# Altium footprint library Capacitor Non-Polar Disc.PcbLib: 220 footprints (part 8 of 14)
Each footprint in its own frame and in the unit in brackets; x right, y up, seen from the top. Pads: shape width x height; smd on the part's side, far side on the other; paste and mask are expansions set on the pad; w line width, h text height; cw(c..) or ccw(c..) is an arc to the next point about the centre after c.
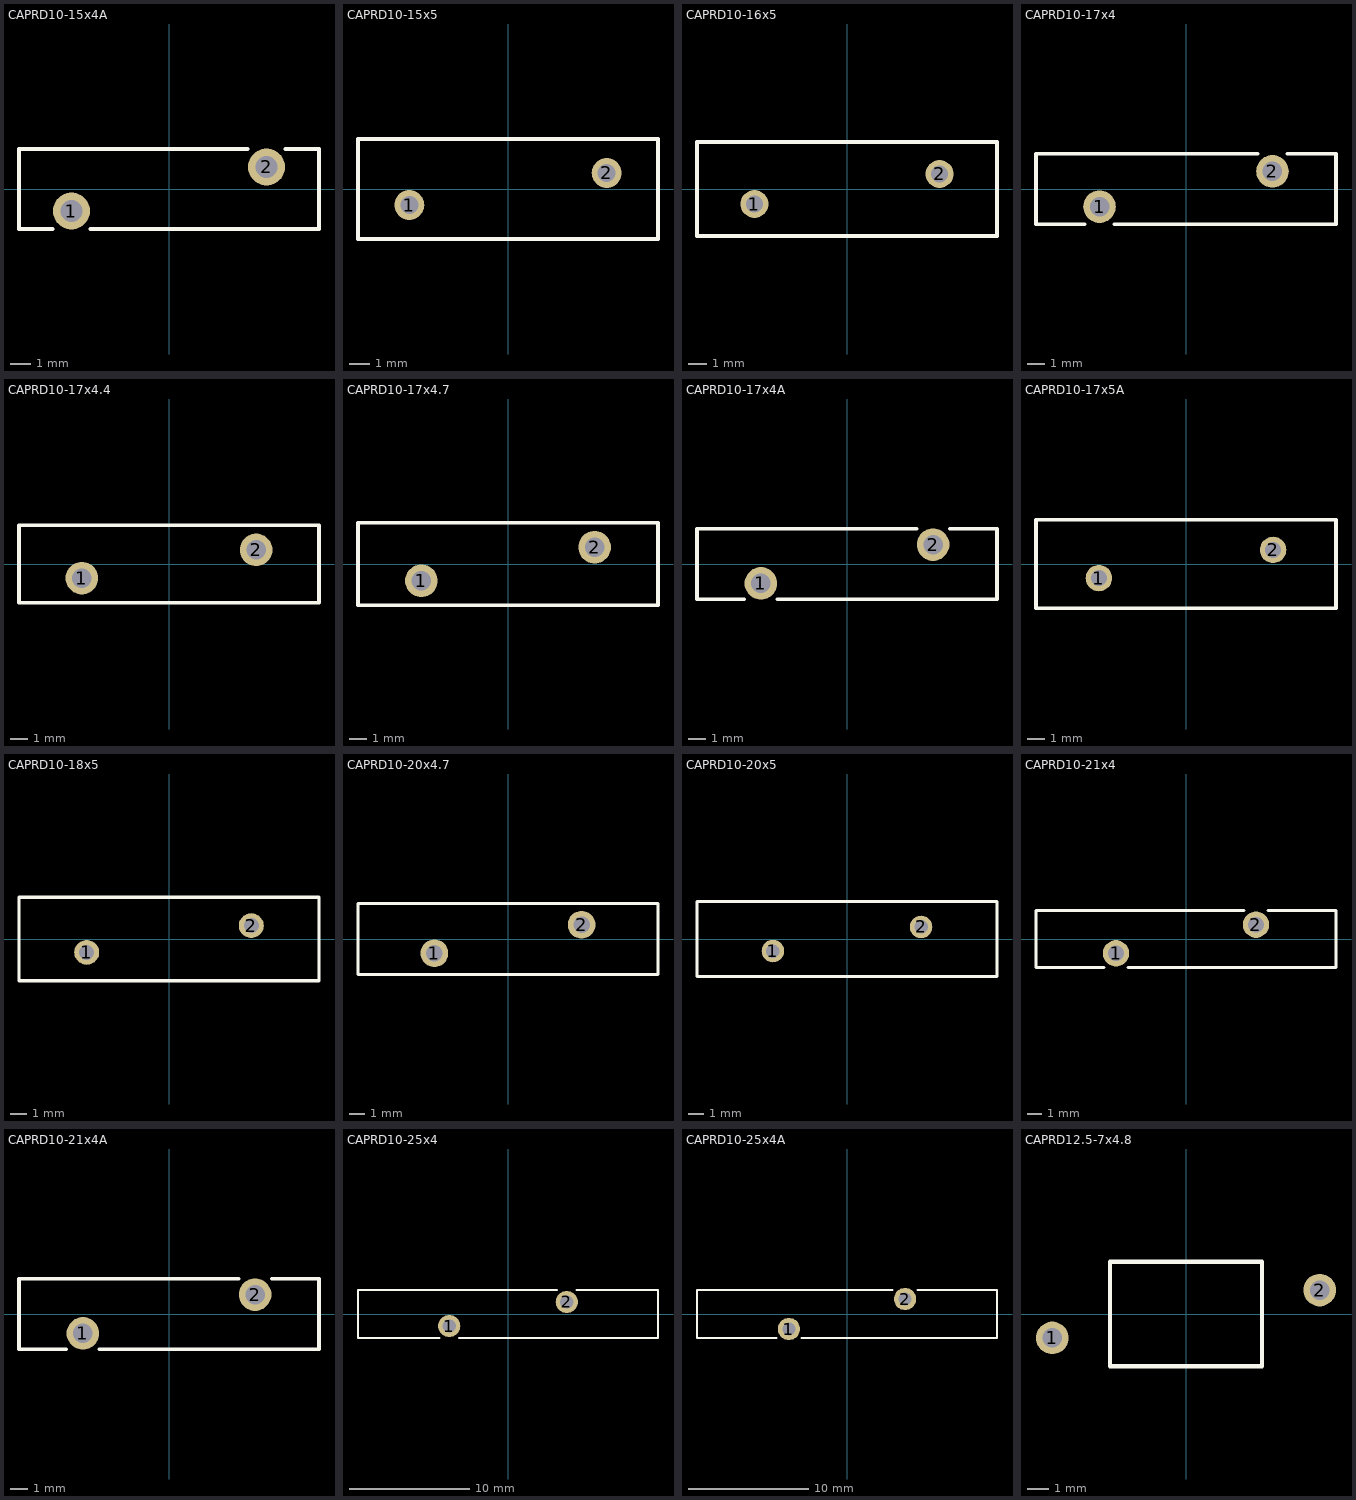
[diagram p7: the footprints below, top view; thin cyan lines are the x and y axes]

## CAPRD10-15x4A [mm] "Capacitor, Ceramic, Thru-Hole, Disc; Body 15 x 4 mm (LxW max) Pin Spacing 10 mm (typ)"
height 18
pads (2):
  round 1.85 hole 1.1: 1(-4.878,-1.1) 2(4.878,1.1)
Top Overlay:
  lines w0.2: -5.825,-2 -7.5,-2 -7.5,2 3.93,2 ; -3.93,-2 7.5,-2 7.5,2 5.825,2

## CAPRD10-15x5 [mm] "Capacitor, Ceramic, Thru-Hole, Disc; Body 15 x 5 mm (LxW max) Pin Spacing 10 mm (typ)"
height 18
pads (2):
  round 1.5 hole 0.9: 1(-4.936,-0.8) 2(4.936,0.8)
Top Overlay:
  lines w0.2: -7.5,-2.5 7.5,-2.5 7.5,2.5 -7.5,2.5 -7.5,-2.5

## CAPRD10-16x5 [mm] "Capacitor, Ceramic, Thru-Hole, Disc; Body 16 x 5 mm (LxW max) Pin Spacing 10 mm (typ)"
height 19
pads (2):
  round 1.5 hole 0.9: 1(-4.936,-0.8) 2(4.936,0.8)
Top Overlay:
  lines w0.2: -8,-2.5 -8,2.5 8,2.5 8,-2.5 -8,-2.5

## CAPRD10-17x4 [mm] "Capacitor, Ceramic, Thru-Hole, Disc; Body 17 x 4 mm (LxW max) Pin Spacing 10 mm (typ)"
height 20
pads (2):
  round 1.85 hole 1.1: 1(-4.899,-1) 2(4.899,1)
Top Overlay:
  lines w0.2: -5.73,-2 -8.5,-2 -8.5,2 4.068,2 ; -4.068,-2 8.5,-2 8.5,2 5.73,2

## CAPRD10-17x4.4 [mm] "Capacitor, Ceramic, Thru-Hole, Disc; Body 17 x 4.4 mm (LxW max) Pin Spacing 10 mm (typ)"
height 20
pads (2):
  round 1.85 hole 1.1: 1(-4.936,-0.8) 2(4.936,0.8)
Top Overlay:
  lines w0.2: -8.5,-2.2 -8.5,2.2 8.5,2.2 8.5,-2.2 -8.5,-2.2

## CAPRD10-17x4.7 [mm] "Capacitor, Ceramic, Thru-Hole, Disc; Body 17 x 4.7 mm (LxW max) Pin Spacing 10 mm (typ)"
height 20
pads (2):
  round 1.85 hole 1.1: 1(-4.909,-0.95) 2(4.909,0.95)
Top Overlay:
  lines w0.2: -8.5,-2.35 8.5,-2.35 8.5,2.35 -8.5,2.35 -8.5,-2.35

## CAPRD10-17x4A [mm] "Capacitor, Ceramic, Thru-Hole, Disc; Body 17 x 4 mm (LxW max) Pin Spacing 10 mm (typ)"
height 20
pads (2):
  round 1.85 hole 1.1: 1(-4.878,-1.1) 2(4.878,1.1)
Top Overlay:
  lines w0.2: -5.816,-2 -8.5,-2 -8.5,2 3.939,2 ; -3.939,-2 8.5,-2 8.5,2 5.816,2

## CAPRD10-17x5A [mm] "Capacitor, Ceramic, Thru-Hole, Disc; Body 17 x 5 mm (LxW max) Pin Spacing 10 mm (typ)"
height 20
pads (2):
  round 1.5 hole 0.9: 1(-4.936,-0.8) 2(4.936,0.8)
Top Overlay:
  lines w0.2: -8.5,-2.5 -8.5,2.5 8.5,2.5 8.5,-2.5 -8.5,-2.5

## CAPRD10-18x5 [mm] "Capacitor, Ceramic, Thru-Hole, Disc; Body 18 x 5 mm (LxW max) Pin Spacing 10 mm (typ)"
height 21
pads (2):
  round 1.5 hole 0.9: 1(-4.936,-0.8) 2(4.936,0.8)
Top Overlay:
  lines w0.2: -9,-2.5 -9,2.5 9,2.5 9,-2.5 -9,-2.5

## CAPRD10-20x4.7 [mm] "Capacitor, Ceramic, Thru-Hole, Disc; Body 20 x 4.7 mm (LxW max) Pin Spacing 10 mm (typ)"
height 23
pads (2):
  round 1.85 hole 1.1: 1(-4.909,-0.95) 2(4.909,0.95)
Top Overlay:
  lines w0.2: -10,-2.35 10,-2.35 10,2.35 -10,2.35 -10,-2.35

## CAPRD10-20x5 [mm] "Capacitor, Ceramic, Thru-Hole, Disc; Body 20 x 5 mm (LxW max) Pin Spacing 10 mm (typ)"
height 23
pads (2):
  round 1.5 hole 0.9: 1(-4.936,-0.8) 2(4.936,0.8)
Top Overlay:
  lines w0.2: -10,-2.5 -10,2.5 10,2.5 10,-2.5 -10,-2.5

## CAPRD10-21x4 [mm] "Capacitor, Ceramic, Thru-Hole, Disc; Body 21 x 4 mm (LxW max) Pin Spacing 10 mm (typ)"
height 24
pads (2):
  round 1.85 hole 1.1: 1(-4.899,-1) 2(4.899,1)
Top Overlay:
  lines w0.2: -5.73,-2 -10.5,-2 -10.5,2 4.068,2 ; -4.068,-2 10.5,-2 10.5,2 5.73,2

## CAPRD10-21x4A [mm] "Capacitor, Ceramic, Thru-Hole, Disc; Body 21 x 4 mm (LxW max) Pin Spacing 10 mm (typ)"
height 24
pads (2):
  round 1.85 hole 1.1: 1(-4.878,-1.1) 2(4.878,1.1)
Top Overlay:
  lines w0.2: -5.816,-2 -8.5,-2 -8.5,2 3.939,2 ; -3.939,-2 8.5,-2 8.5,2 5.816,2

## CAPRD10-25x4 [mm] "Capacitor, Ceramic, Thru-Hole, Disc; Body 25 x 4 mm (LxW max) Pin Spacing 10 mm (typ)"
height 28
pads (2):
  round 1.85 hole 1.1: 1(-4.899,-1) 2(4.899,1)
Top Overlay:
  lines w0.2: -5.73,-2 -12.5,-2 -12.5,2 4.068,2 ; -4.068,-2 12.5,-2 12.5,2 5.73,2

## CAPRD10-25x4A [mm] "Capacitor, Ceramic, Thru-Hole, Disc; Body 25 x 4 mm (LxW max) Pin Spacing 10 mm (typ)"
height 28
pads (2):
  round 1.85 hole 1.1: 1(-4.841,-1.25) 2(4.841,1.25)
Top Overlay:
  lines w0.2: -5.904,-2 -12.5,-2 -12.5,2 3.779,2 ; -3.779,-2 12.5,-2 12.5,2 5.904,2

## CAPRD12.5-7x4.8 [mm] "Capacitor, Ceramic, Thru-Hole, Disc; Body 7 x 4.8 mm (LxW max) Pin Spacing 12.5 mm (typ)"
height 10
pads (2):
  round 1.5 hole 0.9: 1(-6.152,-1.1) 2(6.152,1.1)
Top Overlay:
  lines w0.2: -3.5,-2.4 3.5,-2.4 3.5,2.4 -3.5,2.4 -3.5,-2.4